# Altium footprint library PcbLib.PcbLib: 5 footprints
Each footprint in its own frame and in the unit in brackets; x right, y up, seen from the top. Pads: shape width x height; smd on the part's side, far side on the other; paste and mask are expansions set on the pad; w line width, h text height; cw(c..) or ccw(c..) is an arc to the next point about the centre after c.
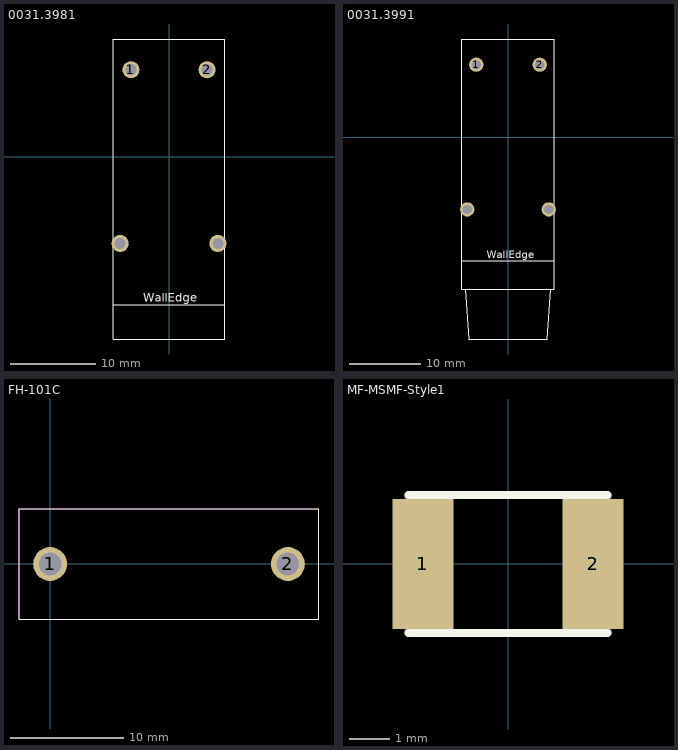
[diagram p0: the footprints below, top view; thin cyan lines are the x and y axes]

## 0031.3981 [mm] "FUSE HLDR CARTRIDGE 250V 10A PCB"
height 12.3
pads (4):
  round 2 hole 1.3: 1(-4.45,10.16) 2(4.45,10.16) TAB1(-5.715,-10.16) TAB2(5.715,-10.16)
Top Overlay:
  lines w0.1: -6.5,-17.34 6.5,-17.34 ; -6.5,-21.34 6.5,-21.34 6.5,13.76 -6.5,13.76 -6.5,-21.34
  text "WallEdge" at -3,-17 h1
3D body "31-3981.stp": height 12.3, standoff -4.8, extent -6.5,-21.4 6.5,13.7

## 0031.3991 [mm] "FUSE HLDR CARTRIDGE 250V 10A PCB FINGERTIP"
height 12.3
pads (4):
  round 2 hole 1.3: 1(-4.45,10.16) 2(4.45,10.16) TAB1(-5.715,-10.16) TAB2(5.715,-10.16)
Top Overlay:
  lines w0.1: -6.5,-17.34 6.5,-17.34 ; -6,-21.34 -5.5,-28.34 5.5,-28.34 6,-21.34 ; -6.5,-21.34 6.5,-21.34 6.5,13.76 -6.5,13.76 -6.5,-21.34
  text "WallEdge" at -3,-17 h1
3D body "31-3991.stp": height 12.3, standoff -4.8, extent -6.5,-28.4 6.5,13.7

## FH-101C [mm] "FUSE HLDR CARTRIDGE 250V 10A PCB DRAGON CITY"
height 13.4
pads (2):
  round 3 hole 2: 1(0,0) 2(21,0)
Top Overlay:
  lines w0.1: -2.75,-4.9 23.75,-4.9 23.75,4.9 -2.75,4.9 -2.75,-4.9
Mechanical 13:
  lines w0.1: -2.75,-4.9 23.75,-4.9 23.75,4.9 -2.75,4.9 -2.75,-4.9

## MF-MSMF-Style1 [mm] "MF-MSMF Bourns PTC Resettable Fuse"
height 1.1
pads (2):
  rect 1.5x3.2 smd: 1(-2.1,0) 2(2.1,0)
Top Overlay:
  lines w0.2: -2.45,-1.7 2.45,-1.7 ; -2.45,1.7 2.45,1.7
Mechanical 1:
  lines w0.2: -2.45,-1.7 2.45,-1.7 2.45,1.7 -2.45,1.7 -2.45,-1.7

## MF-MSMF-Style2 [mm] "MF-MSMF Bourns PTC Resettable Fuse"
height 1.6